# EAGLE library part 2_X_10_HEADER_GENERIC (library 3D_MIG_Controller)
CONN HEADER R/A 20POS 2.54MM, Straight, Right Angle
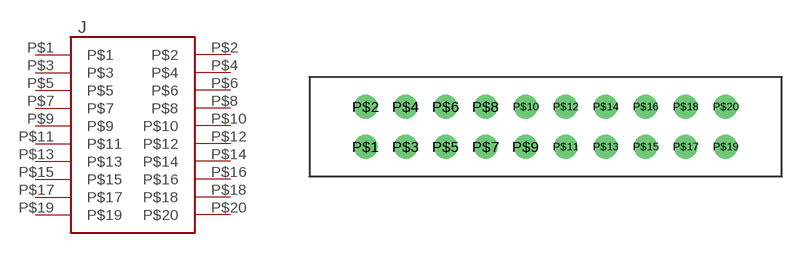
[diagram p28: symbol with the pads of 2_X_10_.1_INCH; footprint 2_X_10_.1_INCH]

Designator prefix J

## 2_X_10_HEADER_GENERIC (PARTNO: 67996-420HLF)  [2_X_10_.1_INCH]
P$1  P$1
P$2  P$2
P$3  P$3
P$4  P$4
P$5  P$5
P$6  P$6
P$7  P$7
P$8  P$8
P$9  P$9
P$10  P$10
P$11  P$11
P$12  P$12
P$13  P$13
P$14  P$14
P$15  P$15
P$16  P$16
P$17  P$17
P$18  P$18
P$19  P$19
P$20  P$20

## 2_X_10_HEADER_GENERIC2_X_10_.1_IN_RA (PARTNO: PH2RA-20-UA)  [2_X_10_.1_INCH]
Pads as for 2_X_10_.1_INCH

## Footprint 2_X_10_.1_INCH (pad centres in mm)
drill 1: P$1 -11.43,-1.27; P$2 -11.43,1.27; P$3 -8.89,-1.27; P$4 -8.89,1.27; P$5 -6.35,-1.27; P$6 -6.35,1.27; P$7 -3.81,-1.27; P$8 -3.81,1.27; P$9 -1.27,-1.27; P$10 -1.27,1.27; P$11 1.27,-1.27; P$12 1.27,1.27; P$13 3.81,-1.27; P$14 3.81,1.27; P$15 6.35,-1.27; P$16 6.35,1.27; P$17 8.89,-1.27; P$18 8.89,1.27; P$19 11.43,-1.27; P$20 11.43,1.27